# EAGLE library part OLED-240X320 (library myParts)
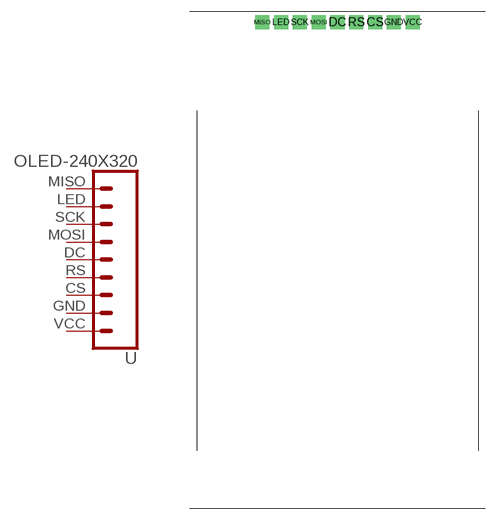
[diagram p0: symbol with the pads of OLED_240X320; footprint OLED_240X320]

Designator prefix -

## OLED-240X320  [OLED_240X320]
CS  CS  pas
DC  DC  pas
GND  GND  pas
LED  LED  pas
MISO  MISO  pas
MOSI  MOSI  pas
RS  RS  pas
SCK  CLK  pas
VCC  VCC  pas

## Footprint OLED_240X320 (pad centres in mm)
drill 1.27 square: CS 5.08,0; DC 0,0; GND 7.62,0; LED -7.62,0; MISO -10.16,0; MOSI -2.54,0; RS 2.54,0; SCK -5.08,0; VCC 10.16,0